# Altium footprint library Oscillators.PcbLib: 2 footprints
Each footprint in its own frame and in the unit in brackets; x right, y up, seen from the top. Pads: shape width x height; smd on the part's side, far side on the other; paste and mask are expansions set on the pad; w line width, h text height; cw(c..) or ccw(c..) is an arc to the next point about the centre after c.
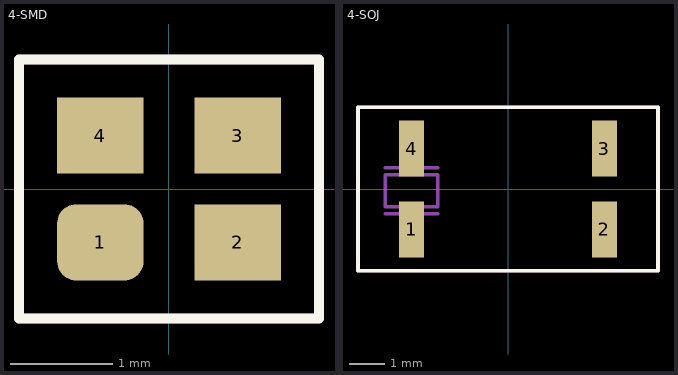
[diagram p0: the footprints below, top view; thin cyan lines are the x and y axes]

## 4-SMD [mm] "4-SMD"
pads (4):
  rrect50% 0.85x0.75 smd: 1(-0.675,-0.525)
  rect 0.85x0.75 smd: 2(0.675,-0.525) 3(0.675,0.525) 4(-0.675,0.525)
Top Overlay:
  lines w0.1: 1.475,1.25 1.475,-1.275 1.1,-1.275 -1.475,-1.275 -1.475,1.275 -0.55,1.275 1.475,1.275
Top Assembly:
  lines w0.1: 1.475,1.25 1.475,-1.275 1.1,-1.275 -1.475,-1.275 -1.475,1.275 -0.55,1.275 1.475,1.275
  text "1" at -0.8,-1.1 h0.6
  text "4" at -0.95,0.525 h0.6
  text ".Designator" at -1.1,-0.3 h0.6
3D body: height 0.51, standoff 0.01, extent -1,-0.8 1,0.8

## 4-SOJ [mm] "4-SOJ"
pads (4):
  rect 0.7x1.6 smd: 1(-2.75,-1.15) 2(2.75,-1.15) 3(2.75,1.15) 4(-2.75,1.15)
Top Overlay:
  lines w0.1: -4.275,-2.325 4.275,-2.325 4.275,2.325 -4.275,2.325 -4.275,-2.325
  text "." at -2.925,-3.125 h0.7
Top Assembly:
  lines w0.1: -3.5,-0.7 -2,-0.7 ; -3.5,0.6 -2,0.6 ; -2.7,-1.3 -2.7,-0.7 ; -2.7,0.6 -2.7,1.2 ; -4.275,-2.325 -4.275,2.325 4.275,2.325 4.275,-2.325 -4.275,-2.325 ; -3.5,-0.5 -2,-0.5 -2,0.4 -3.5,0.4 -3.5,-0.5
  text ".Designator" at -1.1,-0.7 h1.3
3D body: height 2.65, standoff -0.01, extent -3.995,-1.99 4.005,2.01